# Altium footprint library AnchorBoard_SNS.PcbLib: 45 footprints (part 3 of 3)
Each footprint in its own frame and in the unit in brackets; x right, y up, seen from the top. Pads: shape width x height; smd on the part's side, far side on the other; paste and mask are expansions set on the pad; w line width, h text height; cw(c..) or ccw(c..) is an arc to the next point about the centre after c.
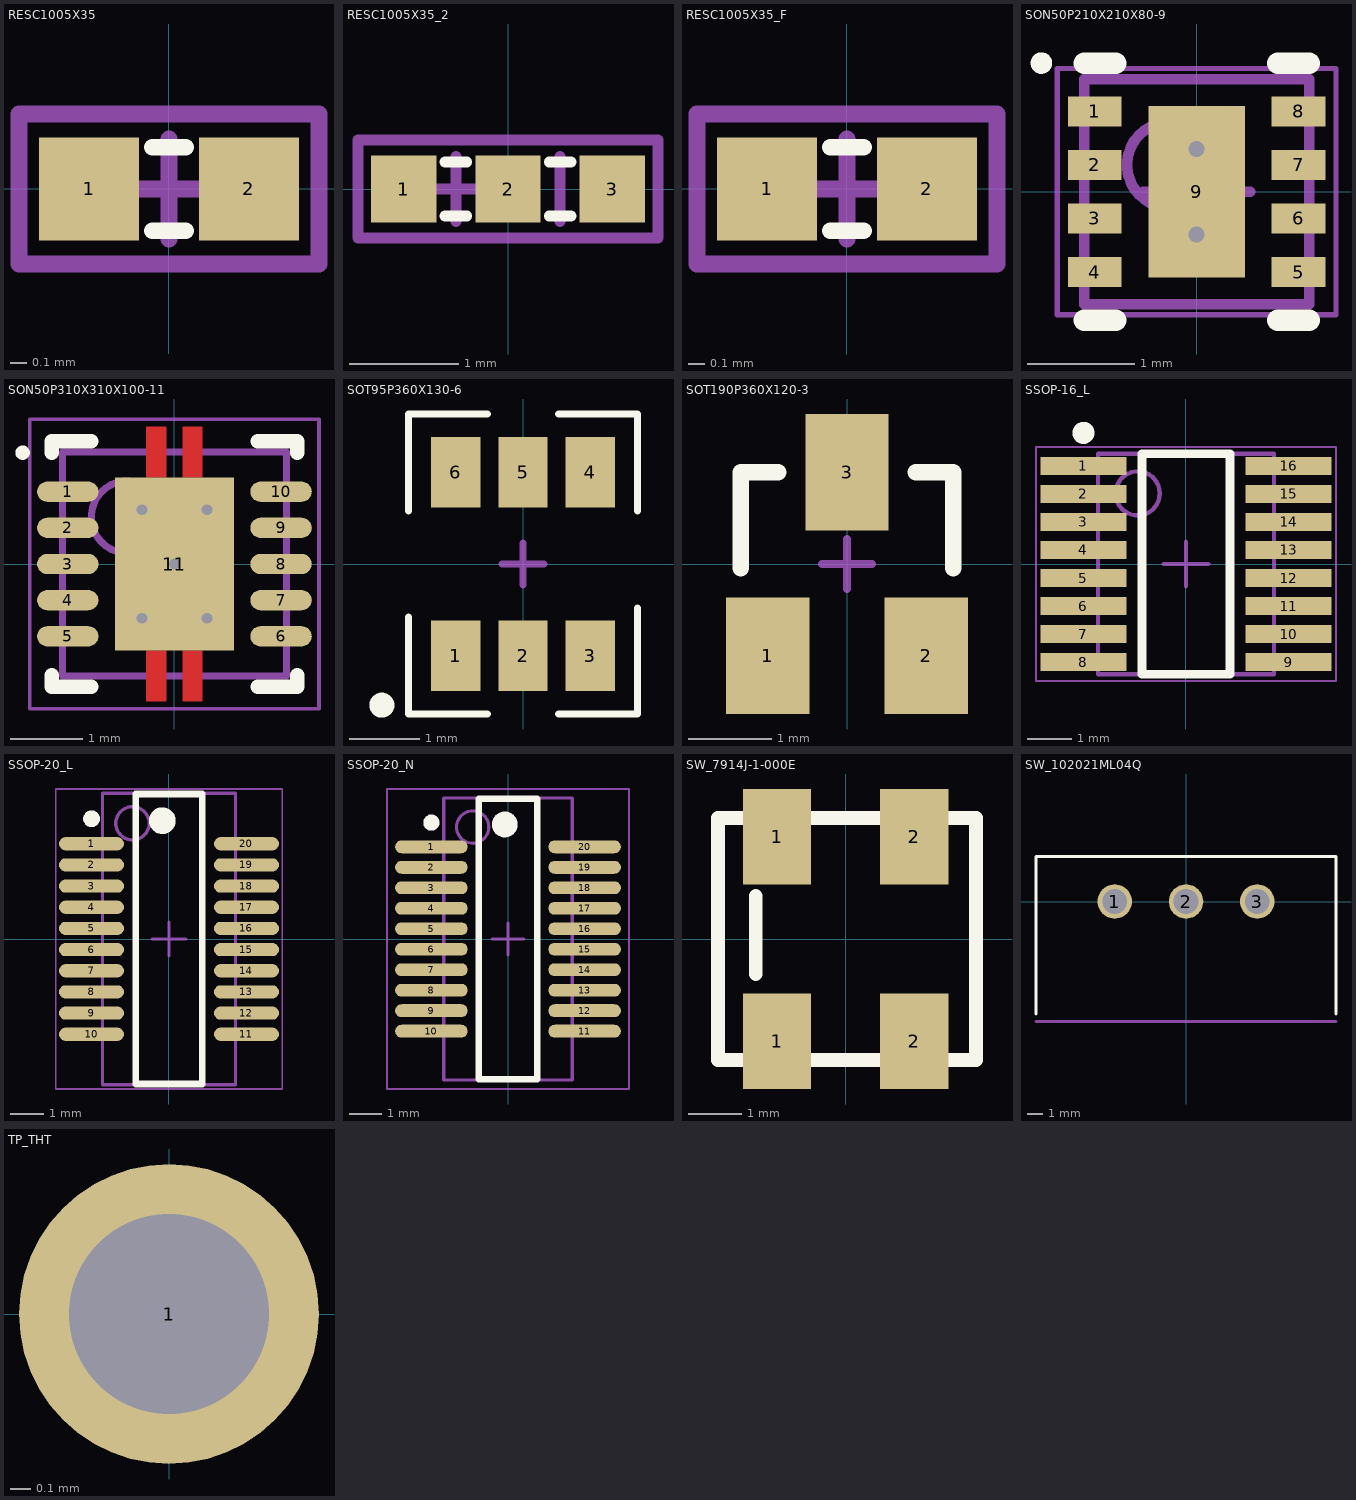
[diagram p2: the footprints below, top view; thin cyan lines are the x and y axes]

## RESC1005X35 [mm] "Chip Resistor; 1x0.5mm"
height 0.35
pads (2):
  rect 0.6x0.62 smd: 1(-0.48,0) 2(0.48,0)
Top Overlay:
  lines w0.1: -0.1,-0.25 0.1,-0.25 ; -0.1,0.25 0.1,0.25
Mechanical 15:
  lines w0.1: -0.3,0 0.3,0 0,0 ; 0,-0.3 0,0.3 ; -0.9,-0.45 -0.9,0.45 0.9,0.45 0.9,-0.45 -0.9,-0.45
3D body: height 0.35, standoff 0, extent -0.3,-0.25 0.3,0.25
3D body: height 0.35, standoff 0, extent -0.5,-0.25 -0.3,0.25
3D body: height 0.35, standoff 0, extent 0.3,-0.25 0.5,0.25

## RESC1005X35_2 [mm] "Chip Resistor; 1x0.5mm"
height 0.35
pads (3):
  rect 0.6x0.62 smd: 1(-0.96,0) 2(0,0) 3(0.96,0)
Top Overlay:
  lines w0.1: -0.58,-0.25 -0.38,-0.25 ; -0.58,0.25 -0.38,0.25 ; 0.38,-0.25 0.58,-0.25 ; 0.38,0.25 0.58,0.25
Mechanical 15:
  lines w0.1: -0.78,0 -0.18,0 -0.48,0 ; -0.48,-0.3 -0.48,0.3 ; 0.48,-0.3 0.48,0.3 ; -1.38,-0.45 -1.38,0.45 1.38,0.45 1.38,-0.45 -1.38,-0.45
3D body: height 0.35, standoff 0, extent -0.78,-0.25 -0.18,0.25
3D body: height 0.35, standoff 0, extent -0.98,-0.25 -0.78,0.25
3D body: height 0.35, standoff 0, extent -0.18,-0.25 0.02,0.25

## RESC1005X35_F [mm] "Chip Resistor; 1x0.5mm"
pads (2):
  rect 0.6x0.62 smd: 1(-0.48,0) 2(0.48,0)
Top Overlay:
  lines w0.1: -0.1,-0.25 0.1,-0.25 ; -0.1,0.25 0.1,0.25
Mechanical 15:
  lines w0.1: -0.3,0 0.3,0 0,0 ; 0,-0.3 0,0.3 ; -0.9,-0.45 0.9,-0.45 0.9,0.45 -0.9,0.45 -0.9,-0.45

## SON50P210X210X80-9 [mm] "WSON8TP, TPS62162"
height 0.8
pads (9):
  rect 0.5x0.28 smd paste-0.14 mask+0.07: 1(-0.95,0.75) 2(-0.95,0.25) 3(-0.95,-0.25) 4(-0.95,-0.75) 5(0.95,-0.75) 6(0.95,-0.25) 7(0.95,0.25) 8(0.95,0.75)
  rect 0.9x1.6 smd paste-0.45 mask+0.07: 9(0,0)
via 0,-0.4 diameter 0.65 hole 0.15
via 0,0.4 diameter 0.65 hole 0.15
Top Overlay:
  circle w0.1: c-1.45,1.2 r0.05
  lines w0.2: -1.05,-1.2 -0.755,-1.2 ; -1.05,1.2 -0.755,1.2 ; 0.755,-1.2 1.05,-1.2 ; 0.755,1.2 1.05,1.2
Top Paste:
  rectangle: 0.7,0.625 1.2,0.875
  rectangle: 0.7,0.125 1.2,0.375
  rectangle: 0.7,-0.375 1.2,-0.125
  rectangle: 0.7,-0.875 1.2,-0.625
  rectangle: -1.2,-0.875 -0.7,-0.625
  rectangle: -1.2,-0.375 -0.7,-0.125
  rectangle: -1.2,0.625 -0.7,0.875
  rectangle: -0.3,-0.55 0.3,0.55
  rectangle: -1.2,0.125 -0.7,0.375
Mechanical 13:
  circle w0.1: c-0.25,0.25 r0.4
  lines w0.1: -1.05,-1.05 -1.05,1.05 1.05,1.05 1.05,-1.05 -1.05,-1.05
Mechanical 15:
  lines w0.05: -1.3,-1.15 -1.3,1.15 1.3,1.15 1.3,-1.15 -1.3,-1.15
  lines w0.1: -0.5,0 0.5,0 ; 0,-0.5 0,0.5
3D body: height 0.8, standoff 0, extent -1.05,-1.05 1.05,1.05

## SON50P310X310X100-11 [mm] "VSON10, TPS61202"
height 1
pads (11):
  oval 0.85x0.28 smd paste-0.025 mask+0.07: 1(-1.475,1) 2(-1.475,0.5) 3(-1.475,0) 4(-1.475,-0.5) 5(-1.475,-1) 6(1.475,-1) 7(1.475,-0.5) 8(1.475,0) 9(1.475,0.5) 10(1.475,1)
  rect 1.65x2.4 smd paste-0.825 mask+0.07: 11(0,0)
via 0.45,-0.75 diameter 0.65 hole 0.15
via -0.45,-0.75 diameter 0.65 hole 0.15
via -0.45,0.75 diameter 0.65 hole 0.15
via 0.45,0.75 diameter 0.65 hole 0.15
via 0,0 diameter 0.65 hole 0.15
Top Layer:
  rectangle: -0.39,-1.9 -0.11,-1.2
  region: 0.39,-1.2 0.11,-1.2 0.11,-1.9 0.39,-1.9
  region: 0.39,1.9 0.11,1.9 0.11,1.2 0.39,1.2
  rectangle: -0.39,1.2 -0.11,1.9
Top Overlay:
  circle w0.1: c-2.1,1.54 r0.05
  lines w0.2: -1.7,-1.54 -1.7,-1.7 -1.15,-1.7 ; -1.7,1.54 -1.7,1.7 -1.15,1.7 ; 1.15,-1.7 1.7,-1.7 1.7,-1.54 ; 1.15,1.7 1.7,1.7 1.7,1.54
Top Paste:
  rectangle: -0.79,-1.16 -0.11,-0.11
  region: 0.79,-0.11 0.11,-0.11 0.11,-1.16 0.79,-1.16
  region: 0.79,1.16 0.11,1.16 0.11,0.11 0.79,0.11
  rectangle: -0.38,-1.88 -0.12,-1.38
  region: 0.38,-1.38 0.12,-1.38 0.12,-1.88 0.38,-1.88
  region: 0.38,1.88 0.12,1.88 0.12,1.38 0.38,1.38
  rectangle: -0.38,1.38 -0.12,1.88
  rectangle: -0.79,0.11 -0.11,1.16
Mechanical 13:
  circle w0.1: c-0.65,0.65 r0.5
  lines w0.1: -1.55,-1.55 1.55,-1.55 1.55,1.55 -1.55,1.55 -1.55,-1.55
Mechanical 15:
  lines w0.05: -2,-2 2,-2 2,2 -2,2 -2,-2
3D body: height 1, standoff 0, extent -1.55,-1.55 1.55,1.55

## SOT95P360X130-6 [mm] "3 Pin"
height 1.3
pads (6):
  rect 0.7x1 smd: 1(-0.95,-1.3) 2(0,-1.3) 3(0.95,-1.3) 4(0.95,1.3) 5(0,1.3) 6(-0.95,1.3)
Top Overlay:
  circle w0.254: c-2,-2 r0.05
  lines w0.1: -1.625,-0.75 -1.625,-2.125 -0.5,-2.125 ; -1.625,0.75 -1.625,2.125 -0.5,2.125 ; 0.5,-2.125 1.625,-2.125 1.625,-0.625 ; 0.5,2.125 1.625,2.125 1.625,0.75
Mechanical 15:
  lines w0.1: -0.3,0 0.3,0 ; 0,-0.3 0,0.3
3D body: height 1.1, standoff -0.01, extent -1.46,-1.422 1.461,1.423

## SOT190P360X120-3 [mm] "3 Pin"
height 1.2
pads (3):
  rect 1x1.4 smd: 1(-0.95,-1.1) 2(0.95,-1.1) 3(0,1.1)
Top Overlay:
  lines w0.2: -1.275,-0.05 -1.275,1.1 -0.825,1.1 ; 0.825,1.1 1.275,1.1 1.275,-0.05
Mechanical 15:
  lines w0.1: -0.3,0 0.3,0 ; 0,-0.3 0,0.3
3D body: height 0.5, standoff 0.35, extent -0.25,0.7 0.25,0.95
3D body: height 0.5, standoff 0, extent -0.25,0.95 0.25,1
3D body: height 0.15, standoff 0, extent -0.25,1 0.25,1.25
3D body: height 1.1, standoff 0.1, extent -1.5,-0.7 1.5,0.7
3D body: height 0.15, standoff 0, extent 0.7,-1.25 1.2,-1
3D body: height 0.5, standoff 0, extent 0.7,-1 1.2,-0.95
3D body: height 0.5, standoff 0.35, extent 0.7,-0.95 1.2,-0.7
3D body: height 0.15, standoff 0, extent -1.2,-1.25 -0.7,-1
3D body: height 0.5, standoff 0, extent -1.2,-1 -0.7,-0.95
3D body: height 0.5, standoff 0.35, extent -1.2,-0.95 -0.7,-0.7

## SSOP-16_L [mm] "SOP, 16-Leads, Body 4.9x3.9mm, Pitch 0.635mm, IPC High Density"
height 1.76
pads (16):
  rect 1.95x0.4 smd paste-0.08: 1(-2.325,2.222) 2(-2.325,1.587) 3(-2.325,0.953) 4(-2.325,0.318) 5(-2.325,-0.318) 6(-2.325,-0.953) 7(-2.325,-1.587) 8(-2.325,-2.222) 9(2.325,-2.222) 10(2.325,-1.587) 11(2.325,-0.953) 12(2.325,-0.318) 13(2.325,0.318) 14(2.325,0.953) 15(2.325,1.587) 16(2.325,2.222)
Top Overlay:
  circle w0.25: c-2.325,2.973 r0.125
  lines w0.2: -1,-2.5 -1,2.5 1,2.5 1,-2.5 -1,-2.5
Mechanical 13:
  circle w0.1: c-1.095,1.6 r0.5
  lines w0.1: -1.995,-2.5 -1.995,2.5 1.995,2.5 1.995,-2.5 -1.995,-2.5
Mechanical 15:
  lines w0.05: -3.4,-2.65 -3.4,2.65 3.4,2.65 3.4,-2.65 -3.4,-2.65
  lines w0.1: -0.5,0 0.5,0 ; 0,-0.5 0,0.5
3D body: height 1.76, standoff 0.1, extent -1.995,-2.5 1.995,2.5

## SSOP-20_L [mm] "SOP, 20-Leads, Body 8.6x3.9mm, Pitch 0.635mm, IPC High Density"
height 1.76
pads (20):
  oval 1.95x0.4 smd: 1(-2.325,2.857) 2(-2.325,2.222) 3(-2.325,1.587) 4(-2.325,0.953) 5(-2.325,0.318) 6(-2.325,-0.318) 7(-2.325,-0.953) 8(-2.325,-1.587) 9(-2.325,-2.222) 10(-2.325,-2.857) 11(2.325,-2.857) 12(2.325,-2.222) 13(2.325,-1.587) 14(2.325,-0.953) 15(2.325,-0.318) 16(2.325,0.318) 17(2.325,0.953) 18(2.325,1.587) 19(2.325,2.222) 20(2.325,2.857)
Top Overlay:
  circle w0.4: c-0.2,3.55 r0.2
  circle w0.25: c-2.325,3.608 r0.125
  lines w0.2: -1,-4.35 1,-4.35 1,4.35 -1,4.35 -1,-4.35
Mechanical 13:
  circle w0.1: c-1.095,3.47 r0.5
  lines w0.1: -1.995,-4.37 1.995,-4.37 1.995,4.37 -1.995,4.37 -1.995,-4.37
Mechanical 15:
  lines w0.05: -3.4,-4.5 3.4,-4.5 3.4,4.5 -3.4,4.5 -3.4,-4.5
  lines w0.1: -0.5,0 0.5,0 ; 0,-0.5 0,0.5
3D body: height 1.76, standoff 0.1, extent -1.995,-4.37 1.995,4.37

## SSOP-20_N [mm] "SOP, 20-Leads, Body 8.6x3.9mm, Pitch 0.635mm, IPC Medium Density"
height 1.76
pads (20):
  oval 2.25x0.4 smd: 1(-2.375,2.857) 2(-2.375,2.222) 3(-2.375,1.587) 4(-2.375,0.953) 5(-2.375,0.318) 6(-2.375,-0.318) 7(-2.375,-0.953) 8(-2.375,-1.587) 9(-2.375,-2.222) 10(-2.375,-2.857) 11(2.375,-2.857) 12(2.375,-2.222) 13(2.375,-1.587) 14(2.375,-0.953) 15(2.375,-0.318) 16(2.375,0.318) 17(2.375,0.953) 18(2.375,1.587) 19(2.375,2.222) 20(2.375,2.857)
Top Overlay:
  circle w0.4: c-0.1,3.55 r0.2
  circle w0.25: c-2.375,3.608 r0.125
  lines w0.2: -0.9,-4.35 0.9,-4.35 0.9,4.35 -0.9,4.35 -0.9,-4.35
Mechanical 13:
  circle w0.1: c-1.095,3.47 r0.5
  lines w0.1: -1.995,-4.37 1.995,-4.37 1.995,4.37 -1.995,4.37 -1.995,-4.37
Mechanical 15:
  lines w0.05: -3.75,-4.65 3.75,-4.65 3.75,4.65 -3.75,4.65 -3.75,-4.65
  lines w0.1: -0.5,0 0.5,0 ; 0,-0.5 0,0.5
3D body: height 1.76, standoff 0.1, extent -1.995,-4.37 1.995,4.37

## SW_7914J-1-000E [mm] "BOURNS 7914J-001-000"
height 4.2
pads (4):
  rect 1.27x1.78 smd: 1(-1.275,-1.9) 1(-1.275,1.9) 2(1.275,-1.9) 2(1.275,1.9)
Top Overlay:
  lines w0.254: -1.675,-0.65 -1.675,0.8 ; -2.375,-2.25 -2.375,2.25 2.425,2.25 2.425,-2.25 -2.375,-2.25
3D body: height 2.65, standoff 2.6, extent -2,1.5 -1.725,1.675
3D body: height 2.65, standoff 2.6, extent -2,1.4 -1.725,1.575
3D body: height 2.65, standoff 2.6, extent -2,1.625 -1.725,1.8
3D body: height 2.65, standoff 2.6, extent -2,1.725 -1.725,1.9
3D body: height 2.65, standoff 2.6, extent -2,1.4 -1.95,1.9
3D body: height 0.2, standoff 0, extent -1.7,1.5 -0.9,2.5
3D body: height 1.3, standoff 0, extent -1.7,2.3 -0.9,2.5
3D body: height 0.2, standoff 0, extent 0.9,1.5 1.7,2.5
3D body: height 1.3, standoff 0, extent 0.9,2.3 1.7,2.5
3D body: height 0.2, standoff 0, extent 0.9,-2.5 1.7,-1.5
3D body: height 1.3, standoff 0, extent 0.9,-2.5 1.7,-2.3
3D body: height 1.3, standoff 0, extent -1.7,-2.5 -0.9,-2.3
3D body: height 0.2, standoff 0, extent -1.7,-2.5 -0.9,-1.5
3D body: height 2.6, standoff 0.2, extent -2.4,-2.3 2.4,2.3
3D body: height 4, standoff 2.6, extent -1.2,-1.2 1.191,1.195
3D body: height 2.7, standoff 1, extent 2.3,-0.7 2.5,0.7
3D body: height 2.7, standoff 1, extent -2.5,-0.7 -2.3,0.7

## SW_102021ML04Q [mm] "SPDT Switch"
height 10.5
pads (3):
  round 2.3 hole 1.65: 1(-4.75,0) 2(0,0) 3(4.75,0)
Top Overlay:
  lines w0.2: -10,-7.5 -10,3 10,3 10,-7.5
Mechanical 13:
  lines w0.2: -10,-8 10,-8

## TP_THT [mm] "TestPoint, suitable for soldering"
pads (1):
  round 1.5 hole 1: 1(0,0)